# Altium schematic symbol library BTS117.SchLib: 1 symbol
Pins are listed as number, name and electrical type; pins without a type are passive.

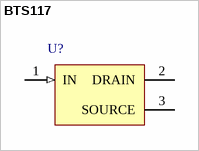
[diagram p0: symbol BTS117]

## BTS117
designator U?
Smart Low-Side Power Switch HITFET, 60 V VDS, 3.5 A ID, -40 to 150 degC, PG-TO220-3-1, Tube, Green; Manufacturer: Infineon; PartNumber: BTS117; Channels: 1; Green: TRUE; ID: 3.5 A; ID(lim) (min): 7 A; ISC (max): 25 A; Ptot (max): 50 W; RDS (on)(max): 100 mOhm; ton (max): 70 us; toff (max): 150 us; VDS (max): 60 V; DatasheetVersion: Rev. 1.4; PackageVersion: Jul-12; PackageReference: PG-TO220-3-1; PackageDescription: 3-Pin Plastic (Green) Transistor Single Outline Package, 10 x 9.25 mm Body, 2.54 mm Pitch; Supplier 1: Digi-Key; Supplier Part Number 1: BTS117IN-ND; Supplier 2: Mouser; Supplier Part Number 2: 726-BTS117; Group: HITFET; Halogen-free: FALSE; ID(nom): 3.5 A; Packing: Tube; Mounting Technology: Through Hole; ComponentLink1Description: Manufacturer URL; ComponentLink1URL: http://www.infineon.com/; ComponentLink2Description: Datasheet; ComponentLink2URL: http://www.infineon.com/dgdl/BTS117_DS_14.pdf?folderId=db3a30431400ef68011421b54e2e0564&fileId=db3a30433a747525013abff8302d549c&location=en.Products.Automotive_ICs.Smart_High-_and_Low-Side_Switches.HITFET___TEMPFET__-_Smart_Low-Side_Switches.DATASHEET.BTS117_DS_14.pdf; ComponentLink3Description: Package Specification; ComponentLink3URL: http://www.infineon.com/dgdl/BTS117_DS_14.pdf?folderId=db3a30431400ef68011421b54e2e0564&fileId=db3a30433a747525013abff8302d549c&location=en.Products.Automotive_ICs.Smart_High-_and_Low-Side_Switches.HITFET___TEMPFET__-_Smart_Low-Side_Switches.DATASHEET.BTS117_DS_14.pdf
footprint INF-PG-TO220-3-1 (FM, 3-Leads, Body 10x4.4mm, Pitch 2.54mm)
pins: 1 IN (in), 2 DRAIN (power), 3 SOURCE (power)